# Altium schematic symbol library mcu_stm32w.SchLib: 2 symbols
Pins are listed as number, name and electrical type; pins without a type are passive.

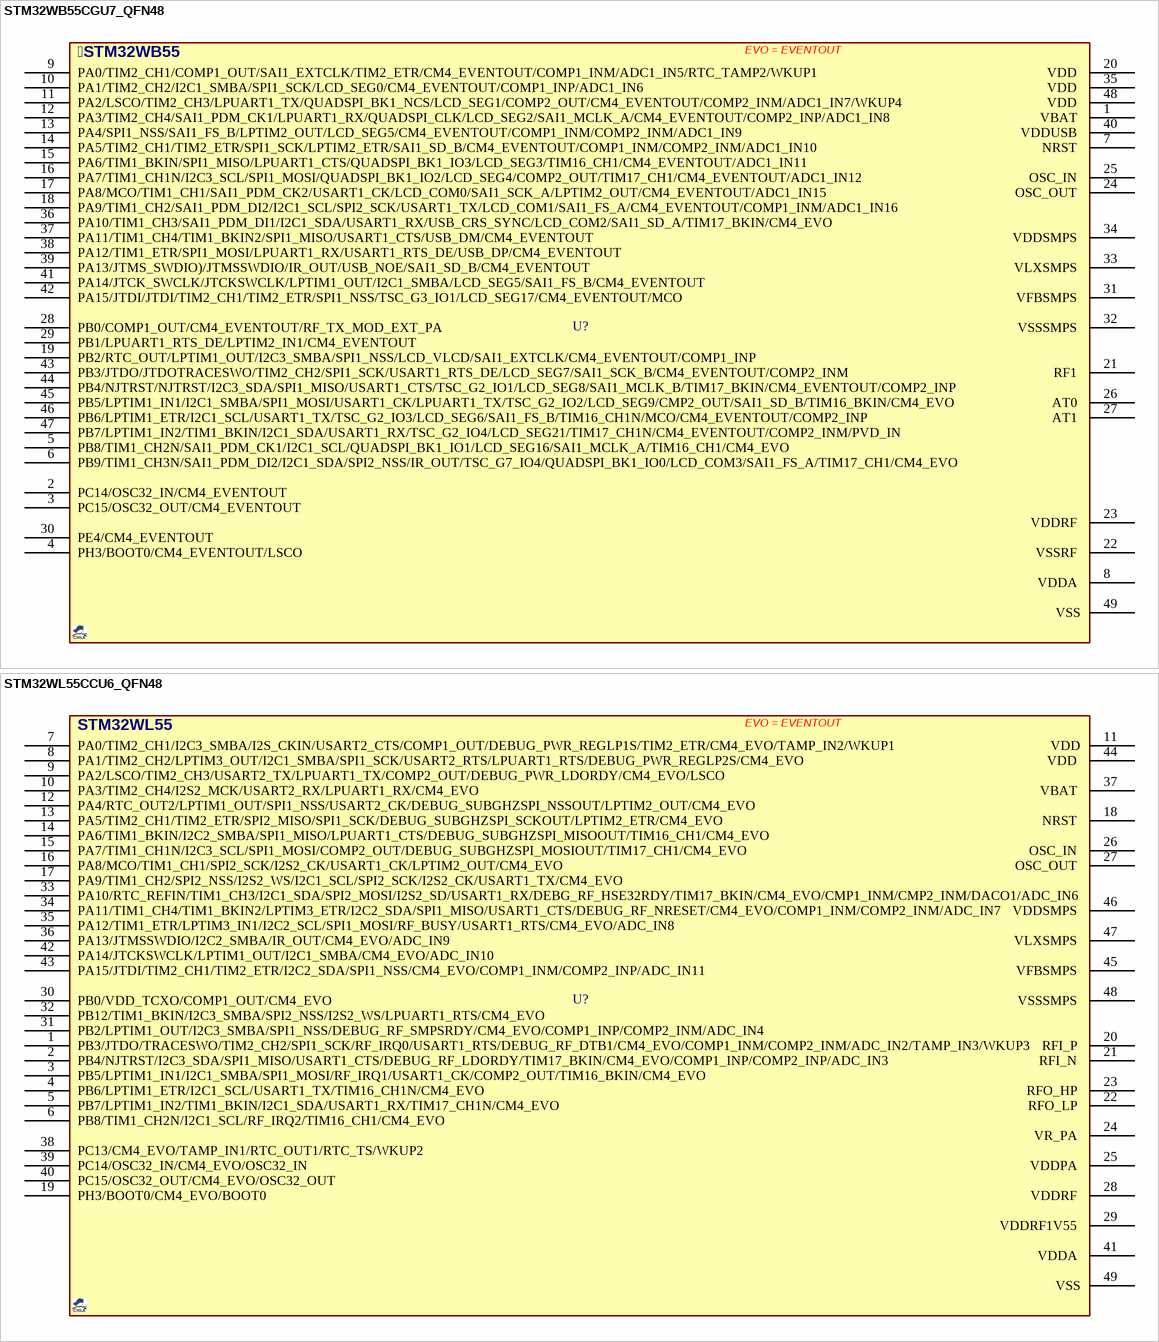
[diagram p0: symbols STM32WB55CGU7_QFN48 to STM32WL55CCU6_QFN48]

## STM32WB55CGU7_QFN48
designator U?, comment STM32WB55  (value not drawn)
MCU, Multiprotocol wireless, 32-bit ARM , Cortex M4 with FPU, Bluetooth 5.2 and 802.15.4; MANF: ST; MANF_P#: STM32WB55CGU7; PARAM2: 1.7~3.6VCC; PARAM: -40~105°C; PRICE: 4$; VALUE: STM32WB55
footprint QFN50_48T (CP-48 (Analog Device),, MO-220-VKKD-2(JEDEC), RGZ S-PQFP-N48, S-PWQFN-N48(TI), 7X7mm, 0.5mm)
pins: 1 VBAT , 2 PC14/OSC32_IN/CM4_EVENTOUT, 3 PC15/OSC32_OUT/CM4_EVENTOUT, 4 PH3/BOOT0/CM4_EVENTOUT/LSCO, 5 PB8/TIM1_CH2N/SAI1_PDM_CK1/I2C1_SCL/QUADSPI_BK1_IO1/LCD_SEG16/SAI1_MCLK_A/TIM16_CH1/CM4_EVO, 6 PB9/TIM1_CH3N/SAI1_PDM_DI2/I2C1_SDA/SPI2_NSS/IR_OUT/TSC_G7_IO4/QUADSPI_BK1_IO0/LCD_COM3/SAI1_FS_A/TIM17_CH1/CM4_EVO, 7 NRST , 8 VDDA , 9 PA0/TIM2_CH1/COMP1_OUT/SAI1_EXTCLK/TIM2_ETR/CM4_EVENTOUT/COMP1_INM/ADC1_IN5/RTC_TAMP2/WKUP1, 10 PA1/TIM2_CH2/I2C1_SMBA/SPI1_SCK/LCD_SEG0/CM4_EVENTOUT/COMP1_INP/ADC1_IN6, 11 PA2/LSCO/TIM2_CH3/LPUART1_TX/QUADSPI_BK1_NCS/LCD_SEG1/COMP2_OUT/CM4_EVENTOUT/COMP2_INM/ADC1_IN7/WKUP4, 12 PA3/TIM2_CH4/SAI1_PDM_CK1/LPUART1_RX/QUADSPI_CLK/LCD_SEG2/SAI1_MCLK_A/CM4_EVENTOUT/COMP2_INP/ADC1_IN8, 13 PA4/SPI1_NSS/SAI1_FS_B/LPTIM2_OUT/LCD_SEG5/CM4_EVENTOUT/COMP1_INM/COMP2_INM/ADC1_IN9, 14 PA5/TIM2_CH1/TIM2_ETR/SPI1_SCK/LPTIM2_ETR/SAI1_SD_B/CM4_EVENTOUT/COMP1_INM/COMP2_INM/ADC1_IN10, 15 PA6/TIM1_BKIN/SPI1_MISO/LPUART1_CTS/QUADSPI_BK1_IO3/LCD_SEG3/TIM16_CH1/CM4_EVENTOUT/ADC1_IN11, 16 PA7/TIM1_CH1N/I2C3_SCL/SPI1_MOSI/QUADSPI_BK1_IO2/LCD_SEG4/COMP2_OUT/TIM17_CH1/CM4_EVENTOUT/ADC1_IN12, 17 PA8/MCO/TIM1_CH1/SAI1_PDM_CK2/USART1_CK/LCD_COM0/SAI1_SCK_A/LPTIM2_OUT/CM4_EVENTOUT/ADC1_IN15, 18 PA9/TIM1_CH2/SAI1_PDM_DI2/I2C1_SCL/SPI2_SCK/USART1_TX/LCD_COM1/SAI1_FS_A/CM4_EVENTOUT/COMP1_INM/ADC1_IN16, 19 PB2/RTC_OUT/LPTIM1_OUT/I2C3_SMBA/SPI1_NSS/LCD_VLCD/SAI1_EXTCLK/CM4_EVENTOUT/COMP1_INP, 20 VDD , 21 RF1 , 22 VSSRF , 23 VDDRF , 24 OSC_OUT , 25 OSC_IN , 26 AT0 , 27 AT1 , 28 PB0/COMP1_OUT/CM4_EVENTOUT/RF_TX_MOD_EXT_PA, 29 PB1/LPUART1_RTS_DE/LPTIM2_IN1/CM4_EVENTOUT, 30 PE4/CM4_EVENTOUT, 31 VFBSMPS , 32 VSSSMPS , 33 VLXSMPS , 34 VDDSMPS , 35 VDD , 36 PA10/TIM1_CH3/SAI1_PDM_DI1/I2C1_SDA/USART1_RX/USB_CRS_SYNC/LCD_COM2/SAI1_SD_A/TIM17_BKIN/CM4_EVO, 37 PA11/TIM1_CH4/TIM1_BKIN2/SPI1_MISO/USART1_CTS/USB_DM/CM4_EVENTOUT, 38 PA12/TIM1_ETR/SPI1_MOSI/LPUART1_RX/USART1_RTS_DE/USB_DP/CM4_EVENTOUT, 39 PA13/JTMS_SWDIO)/JTMSSWDIO/IR_OUT/USB_NOE/SAI1_SD_B/CM4_EVENTOUT, 40 VDDUSB , 41 PA14/JTCK_SWCLK/JTCKSWCLK/LPTIM1_OUT/I2C1_SMBA/LCD_SEG5/SAI1_FS_B/CM4_EVENTOUT, 42 PA15/JTDI/JTDI/TIM2_CH1/TIM2_ETR/SPI1_NSS/TSC_G3_IO1/LCD_SEG17/CM4_EVENTOUT/MCO, 43 PB3/JTDO/JTDOTRACESWO/TIM2_CH2/SPI1_SCK/USART1_RTS_DE/LCD_SEG7/SAI1_SCK_B/CM4_EVENTOUT/COMP2_INM, 44 PB4/NJTRST/NJTRST/I2C3_SDA/SPI1_MISO/USART1_CTS/TSC_G2_IO1/LCD_SEG8/SAI1_MCLK_B/TIM17_BKIN/CM4_EVENTOUT/COMP2_INP, 45 PB5/LPTIM1_IN1/I2C1_SMBA/SPI1_MOSI/USART1_CK/LPUART1_TX/TSC_G2_IO2/LCD_SEG9/CMP2_OUT/SAI1_SD_B/TIM16_BKIN/CM4_EVO, 46 PB6/LPTIM1_ETR/I2C1_SCL/USART1_TX/TSC_G2_IO3/LCD_SEG6/SAI1_FS_B/TIM16_CH1N/MCO/CM4_EVENTOUT/COMP2_INP, 47 PB7/LPTIM1_IN2/TIM1_BKIN/I2C1_SDA/USART1_RX/TSC_G2_IO4/LCD_SEG21/TIM17_CH1N/CM4_EVENTOUT/COMP2_INM/PVD_IN, 48 VDD , 49 VSS
text: EVO = EVENTOUT

## STM32WL55CCU6_QFN48
designator U?, comment STM32WL55  (value not drawn)
MCU, Multiprotocol wireless, 32-bit ARM , dual core Cortex M4/M0+, 256KB Flash, 64KB SRAM, LoRa, GFSK, GMSK, BPSK; MANF: ST; MANF_P#: STM32WL55CCU6; PARAM2: 1.8~3.6VCC; PARAM: 256KB FLASH, 64KB SRAM, -40~85oC; PRICE: 4$; VALUE: STM32WL55
footprint QFN50_48T (CP-48 (Analog Device),, MO-220-VKKD-2(JEDEC), RGZ S-PQFP-N48, S-PWQFN-N48(TI), 7X7mm, 0.5mm)
pins: 1 PB3/JTDO/TRACESWO/TIM2_CH2/SPI1_SCK/RF_IRQ0/USART1_RTS/DEBUG_RF_DTB1/CM4_EVO/COMP1_INM/COMP2_INM/ADC_IN2/TAMP_IN3/WKUP3, 2 PB4/NJTRST/I2C3_SDA/SPI1_MISO/USART1_CTS/DEBUG_RF_LDORDY/TIM17_BKIN/CM4_EVO/COMP1_INP/COMP2_INP/ADC_IN3, 3 PB5/LPTIM1_IN1/I2C1_SMBA/SPI1_MOSI/RF_IRQ1/USART1_CK/COMP2_OUT/TIM16_BKIN/CM4_EVO, 4 PB6/LPTIM1_ETR/I2C1_SCL/USART1_TX/TIM16_CH1N/CM4_EVO, 5 PB7/LPTIM1_IN2/TIM1_BKIN/I2C1_SDA/USART1_RX/TIM17_CH1N/CM4_EVO, 6 PB8/TIM1_CH2N/I2C1_SCL/RF_IRQ2/TIM16_CH1/CM4_EVO, 7 PA0/TIM2_CH1/I2C3_SMBA/I2S_CKIN/USART2_CTS/COMP1_OUT/DEBUG_PWR_REGLP1S/TIM2_ETR/CM4_EVO/TAMP_IN2/WKUP1, 8 PA1/TIM2_CH2/LPTIM3_OUT/I2C1_SMBA/SPI1_SCK/USART2_RTS/LPUART1_RTS/DEBUG_PWR_REGLP2S/CM4_EVO, 9 PA2/LSCO/TIM2_CH3/USART2_TX/LPUART1_TX/COMP2_OUT/DEBUG_PWR_LDORDY/CM4_EVO/LSCO, 10 PA3/TIM2_CH4/I2S2_MCK/USART2_RX/LPUART1_RX/CM4_EVO, 11 VDD, 12 PA4/RTC_OUT2/LPTIM1_OUT/SPI1_NSS/USART2_CK/DEBUG_SUBGHZSPI_NSSOUT/LPTIM2_OUT/CM4_EVO, 13 PA5/TIM2_CH1/TIM2_ETR/SPI2_MISO/SPI1_SCK/DEBUG_SUBGHZSPI_SCKOUT/LPTIM2_ETR/CM4_EVO, 14 PA6/TIM1_BKIN/I2C2_SMBA/SPI1_MISO/LPUART1_CTS/DEBUG_SUBGHZSPI_MISOOUT/TIM16_CH1/CM4_EVO, 15 PA7/TIM1_CH1N/I2C3_SCL/SPI1_MOSI/COMP2_OUT/DEBUG_SUBGHZSPI_MOSIOUT/TIM17_CH1/CM4_EVO, 16 PA8/MCO/TIM1_CH1/SPI2_SCK/I2S2_CK/USART1_CK/LPTIM2_OUT/CM4_EVO, 17 PA9/TIM1_CH2/SPI2_NSS/I2S2_WS/I2C1_SCL/SPI2_SCK/I2S2_CK/USART1_TX/CM4_EVO, 18 NRST , 19 PH3/BOOT0/CM4_EVO/BOOT0, 20 RFI_P , 21 RFI_N , 22 RFO_LP , 23 RFO_HP , 24 VR_PA , 25 VDDPA , 26 OSC_IN , 27 OSC_OUT , 28 VDDRF , 29 VDDRF1V55 , 30 PB0/VDD_TCXO/COMP1_OUT/CM4_EVO, 31 PB2/LPTIM1_OUT/I2C3_SMBA/SPI1_NSS/DEBUG_RF_SMPSRDY/CM4_EVO/COMP1_INP/COMP2_INM/ADC_IN4, 32 PB12/TIM1_BKIN/I2C3_SMBA/SPI2_NSS/I2S2_WS/LPUART1_RTS/CM4_EVO, 33 PA10/RTC_REFIN/TIM1_CH3/I2C1_SDA/SPI2_MOSI/I2S2_SD/USART1_RX/DEBG_RF_HSE32RDY/TIM17_BKIN/CM4_EVO/CMP1_INM/CMP2_INM/DACO1/ADC_IN6, 34 PA11/TIM1_CH4/TIM1_BKIN2/LPTIM3_ETR/I2C2_SDA/SPI1_MISO/USART1_CTS/DEBUG_RF_NRESET/CM4_EVO/COMP1_INM/COMP2_INM/ADC_IN7, 35 PA12/TIM1_ETR/LPTIM3_IN1/I2C2_SCL/SPI1_MOSI/RF_BUSY/USART1_RTS/CM4_EVO/ADC_IN8, 36 PA13/JTMSSWDIO/I2C2_SMBA/IR_OUT/CM4_EVO/ADC_IN9, 37 VBAT , 38 PC13/CM4_EVO/TAMP_IN1/RTC_OUT1/RTC_TS/WKUP2, 39 PC14/OSC32_IN/CM4_EVO/OSC32_IN, 40 PC15/OSC32_OUT/CM4_EVO/OSC32_OUT, 41 VDDA , 42 PA14/JTCKSWCLK/LPTIM1_OUT/I2C1_SMBA/CM4_EVO/ADC_IN10, 43 PA15/JTDI/TIM2_CH1/TIM2_ETR/I2C2_SDA/SPI1_NSS/CM4_EVO/COMP1_INM/COMP2_INP/ADC_IN11, 44 VDD , 45 VFBSMPS , 46 VDDSMPS , 47 VLXSMPS , 48 VSSSMPS , 49 VSS
text: EVO = EVENTOUT